# EAGLE library part XB3-24ACM-J (library micromouse)
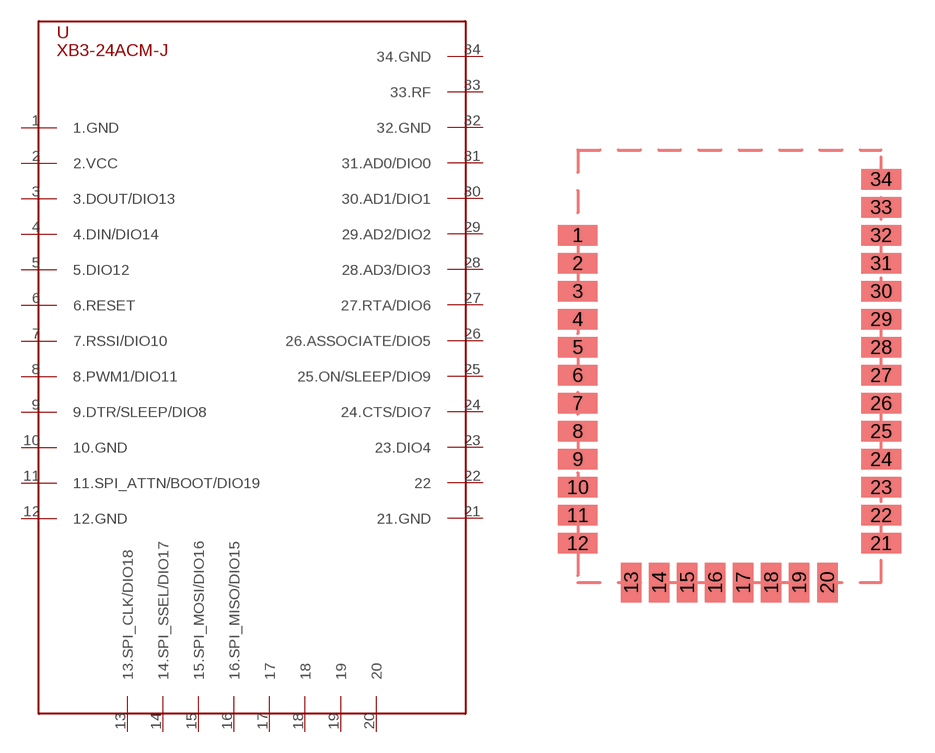
[diagram p6: symbol with the pads of XB3-24ACM-J; footprint XB3-24ACM-J]

Designator prefix -

## XB3-24ACM-J  [XB3-24ACM-J]
1  1.GND
2  2.VCC
3  3.DOUT/DIO13
4  4.DIN/DIO14
5  5.DIO12
6  6.RESET
7  7.RSSI/DIO10
8  8.PWM1/DIO11
9  9.DTR/SLEEP/DIO8
10  10.GND
11  11.SPI_ATTN/BOOT/DIO19
12  12.GND
13  13.SPI_CLK/DIO18
14  14.SPI_SSEL/DIO17
15  15.SPI_MOSI/DIO16
16  16.SPI_MISO/DIO15
17  17
18  18
19  19
20  20
21  21.GND
22  22
23  23.DIO4
24  24.CTS/DIO7
25  25.ON/SLEEP/DIO9
26  26.ASSOCIATE/DIO5
27  27.RTA/DIO6
28  28.AD3/DIO3
29  29.AD2/DIO2
30  30.AD1/DIO1
31  31.AD0/DIO0
32  32.GND
33  33.RF
34  34.GND

## Footprint XB3-24ACM-J (pad centres in mm)
smd 1.778 x 0.914: 1 0,15.503; 2 0,14.253; 3 0,13.003; 4 0,11.753; 5 0,10.503; 6 0,9.253; 7 0,8.003; 8 0,6.753; 9 0,5.503; 10 0,4.253; 11 0,3.003; 12 0,1.753; 21 13.538,1.753; 22 13.538,3.003; 23 13.538,4.253; 24 13.538,5.503; 25 13.538,6.753; 26 13.538,8.003; 27 13.538,9.253; 28 13.538,10.503; 29 13.538,11.753; 30 13.538,13.003; 31 13.538,14.253; 32 13.538,15.503; 33 13.538,16.753; 34 13.538,18.003
smd 0.914 x 1.778: 13 2.388,0; 14 3.638,0; 15 4.888,0; 16 6.138,0; 17 7.388,0; 18 8.638,0; 19 9.888,0; 20 11.138,0